# Altium schematic symbol library DMHA.SchLib: 1 symbol
Pins are listed as number, name and electrical type; pins without a type are passive.

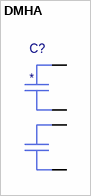
[diagram p0: symbol DMHA]

## DMHA
designator C?
pins: 1, 2, 3, 4